# Altium schematic symbol library F1C100s_F1C200s.SchLib: 1 symbol
Pins are listed as number, name and electrical type; pins without a type are passive.

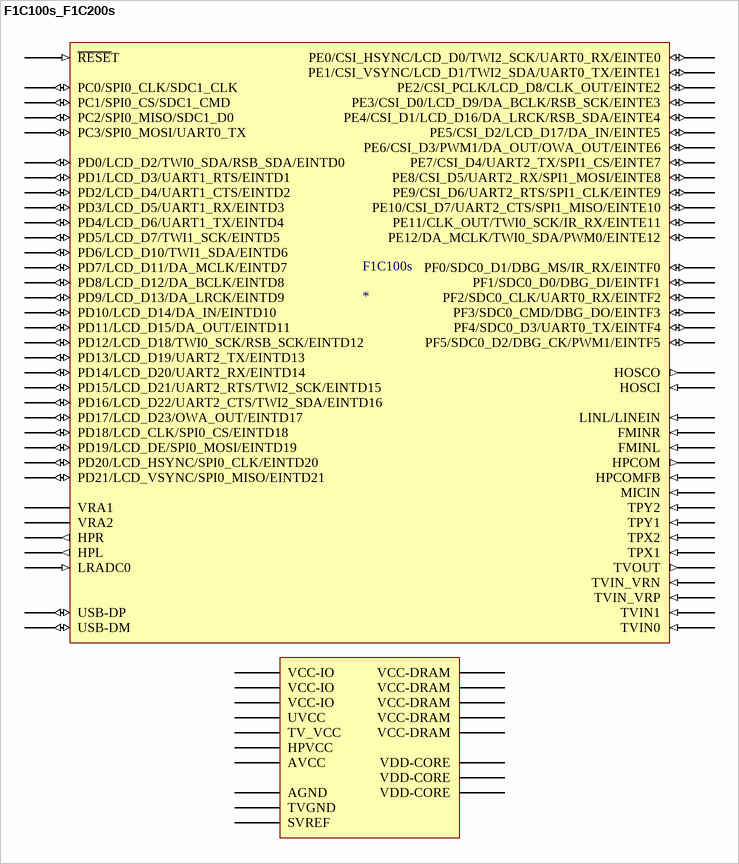
[diagram p0: symbol F1C100s_F1C200s]

## F1C100s_F1C200s
designator F1C100s
F1C100s or F1C200s Allwinner CPU (only differ in amount of built-in RAM)
footprint F1C200s_F1C100s (Allwinner F1C200s Footprint (same as F1C100s))
pins: 1 HPL (out), 2 HPCOMFB (in), 3 HPCOM (out), 4 HPVCC (power), 5 VCC-IO (power), 6 PD0/LCD_D2/TWI0_SDA/RSB_SDA/EINTD0 (io), 7 PD1/LCD_D3/UART1_RTS/EINTD1 (io), 8 PD2/LCD_D4/UART1_CTS/EINTD2 (io), 9 PD3/LCD_D5/UART1_RX/EINTD3 (io), 10 PD4/LCD_D6/UART1_TX/EINTD4 (io), 11 PD5/LCD_D7/TWI1_SCK/EINTD5 (io), 12 PD6/LCD_D10/TWI1_SDA/EINTD6 (io), 13 PD7/LCD_D11/DA_MCLK/EINTD7 (io), 14 PD8/LCD_D12/DA_BCLK/EINTD8 (io), 15 PD9/LCD_D13/DA_LRCK/EINTD9 (io), 16 PD10/LCD_D14/DA_IN/EINTD10 (io), 17 PD11/LCD_D15/DA_OUT/EINTD11 (io), 18 PD12/LCD_D18/TWI0_SCK/RSB_SCK/EINTD12 (io), 19 PD13/LCD_D19/UART2_TX/EINTD13 (io), 20 VCC-IO (power), 21 PD14/LCD_D20/UART2_RX/EINTD14 (io), 22 VDD-CORE (power), 23 PD15/LCD_D21/UART2_RTS/TWI2_SCK/EINTD15 (io), 24 PD16/LCD_D22/UART2_CTS/TWI2_SDA/EINTD16 (io), 25 PD17/LCD_D23/OWA_OUT/EINTD17 (io), 26 PD18/LCD_CLK/SPI0_CS/EINTD18 (io), 27 PD19/LCD_DE/SPI0_MOSI/EINTD19 (io), 28 PD20/LCD_HSYNC/SPI0_CLK/EINTD20 (io), 29 PD21/LCD_VSYNC/SPI0_MISO/EINTD21 (io), 30 VCC-DRAM (power), 31 VCC-DRAM (power), 32 VCC-DRAM (power), 33 SVREF (power), 34 VCC-DRAM (power), 35 VDD-CORE (power), 36 VCC-DRAM (power), 37 PE12/DA_MCLK/TWI0_SDA/PWM0/EINTE12 (io), 38 PE11/CLK_OUT/TWI0_SCK/IR_RX/EINTE11 (io), 39 PE10/CSI_D7/UART2_CTS/SPI1_MISO/EINTE10 (io), 40 PE9/CSI_D6/UART2_RTS/SPI1_CLK/EINTE9 (io), 41 PE8/CSI_D5/UART2_RX/SPI1_MOSI/EINTE8 (io), 42 PE7/CSI_D4/UART2_TX/SPI1_CS/EINTE7 (io), 43 PE6/CSI_D3/PWM1/DA_OUT/OWA_OUT/EINTE6 (io), 44 PE5/CSI_D2/LCD_D17/DA_IN/EINTE5 (io), 45 PE4/CSI_D1/LCD_D16/DA_LRCK/RSB_SDA/EINTE4 (io), 46 PE3/CSI_D0/LCD_D9/DA_BCLK/RSB_SCK/EINTE3 (io), 47 PE2/CSI_PCLK/LCD_D8/CLK_OUT/EINTE2 (io), 48 PE1/CSI_VSYNC/LCD_D1/TWI2_SDA/UART0_TX/EINTE1 (io), 49 PE0/CSI_HSYNC/LCD_D0/TWI2_SCK/UART0_RX/EINTE0 (io), 50 VCC-IO (power), 51 HOSCI (in), 52 HOSCO (out), 53 PF5/SDC0_D2/DBG_CK/PWM1/EINTF5 (io), 54 PF4/SDC0_D3/UART0_TX/EINTF4 (io), 55 PF3/SDC0_CMD/DBG_DO/EINTF3 (io), 56 PF2/SDC0_CLK/UART0_RX/EINTF2 (io), 57 PF1/SDC0_D0/DBG_DI/EINTF1 (io), 58 PF0/SDC0_D1/DBG_MS/IR_RX/EINTF0 (io), 59 PC0/SPI0_CLK/SDC1_CLK (io), 60 PC1/SPI0_CS/SDC1_CMD (io), 61 PC2/SPI0_MISO/SDC1_D0 (io), 62 PC3/SPI0_MOSI/UART0_TX (io), 63 TPY2 (in), 64 TPY1 (in), 65 TPX2 (in), 66 TPX1 (in), 67 UVCC (power), 68 USB-DM (io), 69 USB-DP (io), 70 ~{RESE}T (in), 71 VDD-CORE (power), 72 TVOUT (out), 73 TV_VCC (power), 74 TVGND (power), 75 TVIN_VRN (in), 76 TVIN_VRP (in), 77 TVIN1 (in), 78 TVIN0 (in), 79 LRADC0 (in), 80 AVCC (power), 81 VRA1, 82 AGND (power), 83 VRA2, 84 FMINL (in), 85 FMINR (in), 86 LINL/LINEIN (in), 87 MICIN (in), 88 HPR (out)